# EAGLE library part CONNECTOR_TWIG-4P-2.0-SMD-FEMALE-REINFORCE (library OLED 128x64)
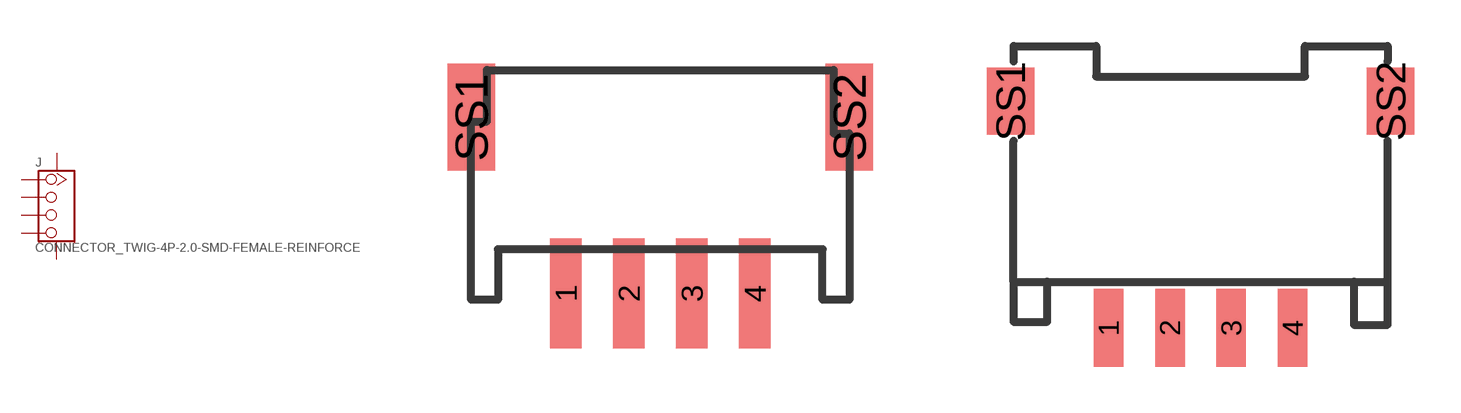
[diagram p0: symbol with the pads of CONNECTOR_4P-SMD-2.0-90D-W/O-BUCKLE; footprints CONNECTOR_4P-SMD-2.0-90D-W/O-BUCKLE, CONNECTOR_4P-SMD-2.0-90D]

Designator prefix J

## CONNECTOR_TWIG-4P-2.0-SMD-FEMALE-REINFORCE  [CONNECTOR_4P-SMD-2.0-90D-W/O-BUCKLE]
1  1
2  2
3  3
4  4
SS1  SS1
SS2  SS2

## CONNECTOR_TWIG-4P-2.0-SMD-FEMALE-REINFORCE90D  [CONNECTOR_4P-SMD-2.0-90D]
Pads as for CONNECTOR_4P-SMD-2.0-90D-W/O-BUCKLE

## CONNECTOR_TWIG-4P-2.0-SMD-FEMALE-REINFORCEDD  [CONNECTOR_4P-SMD-2.0]
Pads as for CONNECTOR_4P-SMD-2.0-90D-W/O-BUCKLE

## Footprint CONNECTOR_4P-SMD-2.0-90D-W/O-BUCKLE (pad centres in mm)
smd 1 x 3.5: 1 -3,0; 2 -1,0; 3 1,0; 4 3,0
smd 1.5 x 3.4: SS1 -6,5.6; SS2 6,5.6

## Footprint CONNECTOR_4P-SMD-2.0-90D (pad centres in mm)
smd 0.965 x 2.54: 1 -3,0; 2 -1,0; 3 1,0; 4 3,0
smd 1.55 x 2.184: SS1 -6.2,7.4; SS2 6.2,7.4

## Footprint CONNECTOR_4P-SMD-2.0 (pad centres in mm)
smd 0.965 x 2.54: 1 -3,0; 2 -1,0; 3 1,0; 4 3,0
smd 1.55 x 2.184: SS1 -6.2,3.4; SS2 6.2,3.4